# Altium footprint library Battery Holder.PcbLib: 25 footprints (part 1 of 2)
Each footprint in its own frame and in the unit in brackets; x right, y up, seen from the top. Pads: shape width x height; smd on the part's side, far side on the other; paste and mask are expansions set on the pad; w line width, h text height; cw(c..) or ccw(c..) is an arc to the next point about the centre after c.
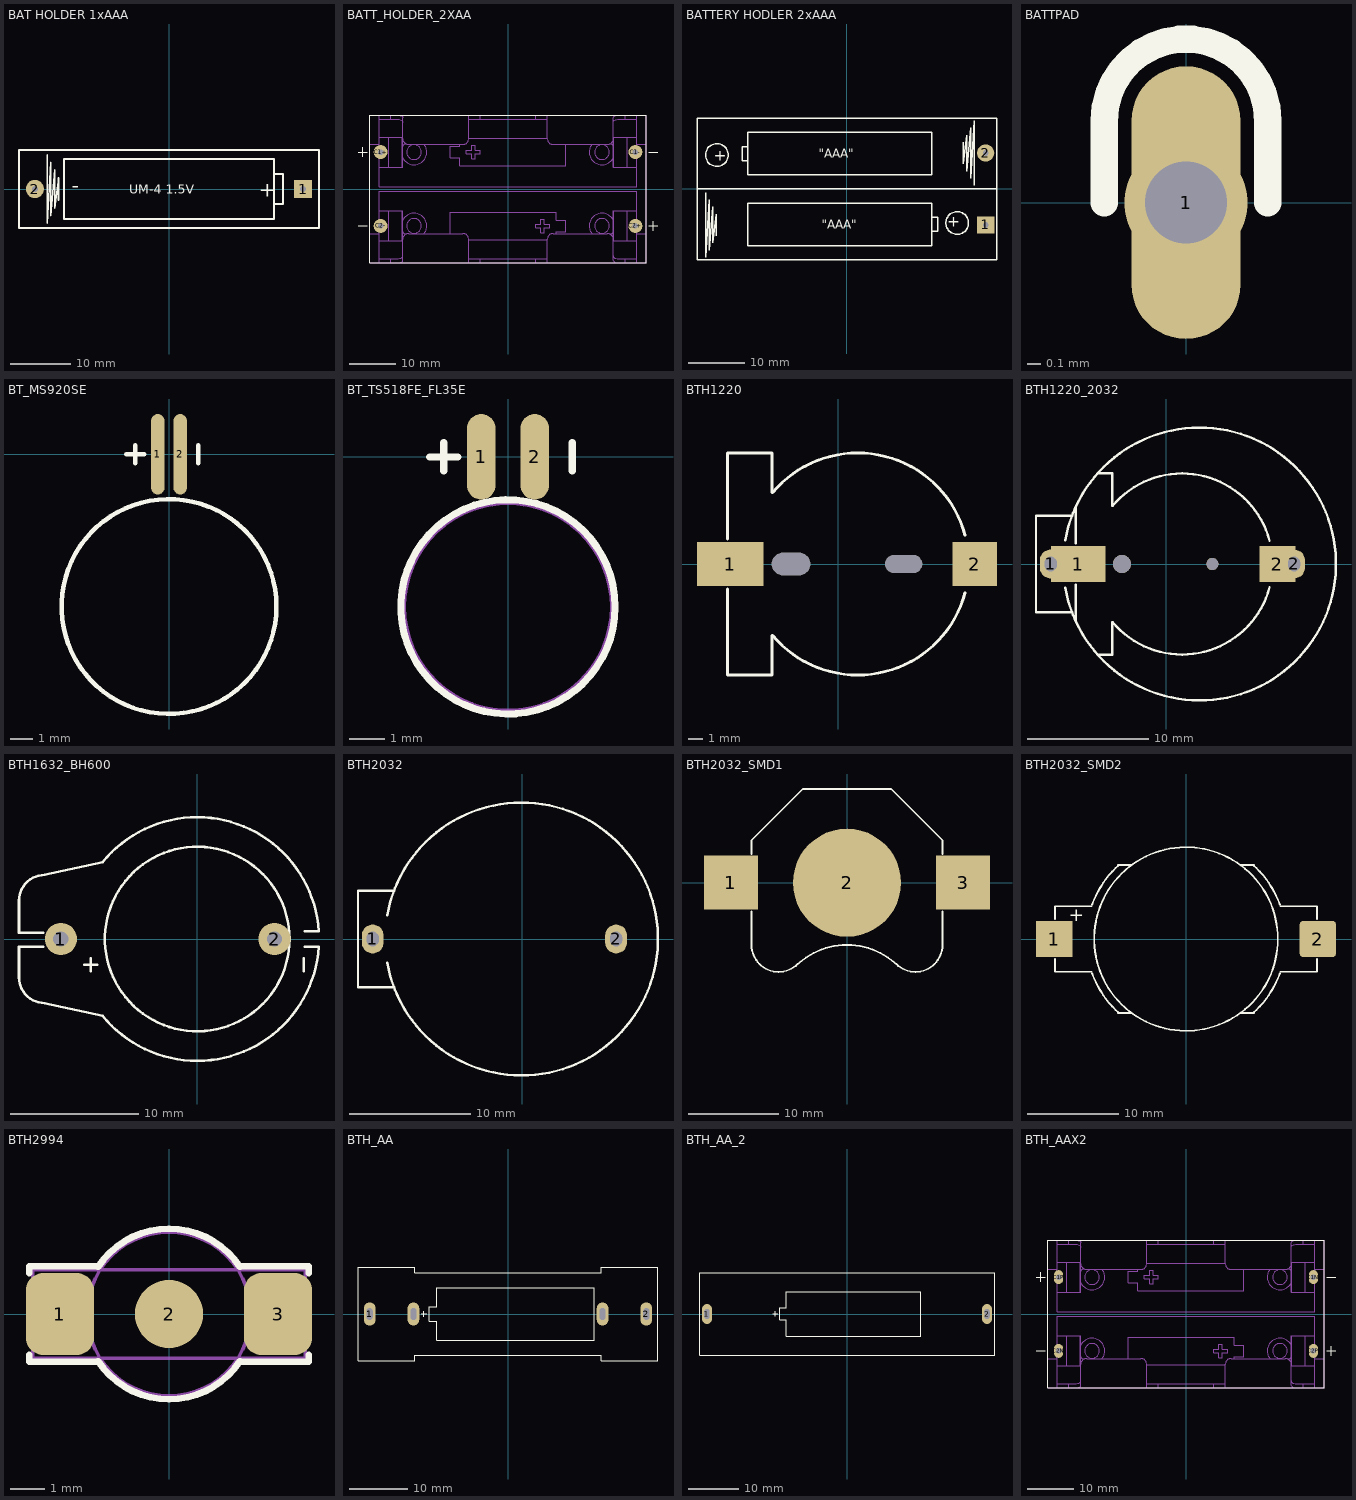
[diagram p0: the footprints below, top view; thin cyan lines are the x and y axes]

## BAT HOLDER 1xAAA [mil] "KEYSTONE 2466"
height 492.13
pads (2):
  rect 120x120 hole 40: 1(879.92,0)
  round 120 hole 40: 2(-879.92,0)
Top Overlay:
  lines w10: -800,225 -800,-225 -775,175 -775,-175 -750,125 -750,-125 -725,75 -725,-75 ; 688.98,-98.43 748.03,-98.43 748.03,98.43 688.98,98.43 ; -984.25,-255.91 984.25,-255.91 984.25,255.91 -984.25,255.91 -984.25,-255.91 ; -688.98,-196.85 688.98,-196.85 688.98,196.85 -688.98,196.85 -688.98,-196.85
  text "-" at -590,50 h100
  text "+" at 590,-50 h100
  text "UM-4 1.5V" at -260,-30 h60
3D body "User Library-KEYELCO-137.step": height 471, standoff -25, extent -1024.95,-375.05 1024.95,235

## BATT_HOLDER_2XAA [mil] "2-cell AA battery holder"
height 660
pads (4):
  round 120 hole 48: C1+(-1086.61,314.96) C1-(1086.61,314.96) C2+(1086.61,-314.96) C2-(-1086.61,-314.96)
Top Overlay:
  lines w5: -1279.53,-314.96 -1200.79,-314.96 ; -1279.53,314.96 -1200.79,314.96 ; -1240.16,275.59 -1240.16,354.33 ; 1200.79,-314.96 1279.53,-314.96 ; 1200.79,314.96 1279.53,314.96 ; 1240.16,-354.33 1240.16,-275.59
  lines w7.87: -1181.1,-629.92 1181.1,-629.92 1181.1,629.92 -1181.1,629.92 -1181.1,-629.92
Mechanical 13:
  drawing of 198 lines, arcs and shapes, not listed
3D body "2xAA Battery Holder.STEP": height 657.48, standoff -118.11, extent -1181.1,-629.91 1181.1,629.93

## BATTERY HODLER 2xAAA [mil] "KEYSTONE 2468"
height 511.81
pads (2):
  rect 120x120 hole 40: 1(964.57,-250)
  round 120 hole 40: 2(964.57,250)
Top Overlay:
  circle w10: c-905.51,236.22 r78.74
  circle w10: c766.14,-236.22 r78.74
  lines w10: -1043.31,0 1043.31,0 ; -983.07,-25 -983.07,-475 -958.07,-75 -958.07,-425 -933.07,-125 -933.07,-375 -908.07,-175 -908.07,-325 ; -688.98,196.85 -728.35,196.85 -728.35,295.28 -688.98,295.28 ; 590.55,-295.28 629.92,-295.28 629.92,-196.85 590.55,-196.85 ; 809.65,325 809.65,175 834.65,375 834.65,125 859.65,425 859.65,75 884.65,475 884.65,25 ; -1043.31,-492.13 -1043.31,492.13 1043.31,492.13 1043.31,-492.13 -1043.31,-492.13 ; -688.98,-393.7 590.55,-393.7 590.55,-98.43 -688.98,-98.43 -688.98,-393.7 ; -688.98,98.43 -688.98,393.7 590.55,393.7 590.55,98.43 -688.98,98.43
  text "+" at -925.2,196.85 h78.74
  text "+" at 787.4,-196.85 h78.74
  text "\"AAA\"" at -196.85,216.54 h60
  text "\"AAA\"" at -177.17,-275.59 h60
3D body "User Library-AAA holder.step": height 460, standoff 0, extent -1000,-500 1000,500

## BATTPAD [mm] "BATT PAD"
height 7.62
pads (1):
  oval 0.8x2 smd mask+0.1: 1(0,0)
via 0,0 diameter 0.9 hole 0.6
Top Overlay:
  lines w0.2: -0.6,0 -0.6,0.6 cw(c0,0.6) 0.6,0.6 0.6,0

## BT_MS920SE [mm] "MS920SE SEIKO BATTERY"
height 2.1
pads (2):
  oval 0.6x3.6 smd: 1(-0.5,0) 2(0.5,0)
Top Overlay:
  circle w0.2: c0,-6.8 r4.8
  lines w0.2: -1.9,0 -1.1,0 ; -1.5,-0.4 -1.5,0.4 ; 1.3,-0.4 1.3,0.4
3D body: height 2.1, standoff 0, extent -4.749,-11.55 4.749,-2.05

## BT_TS518FE_FL35E [mm] "MS518FE TS518FE FL35E SEIKO BATTERY"
height 2.1
pads (2):
  oval 0.8x2.4 smd: 1(-0.75,0) 2(0.75,0)
Top Overlay:
  circle w0.2: c0,-4.2 r3
  lines w0.2: -2.2,0 -1.4,0 ; -1.8,-0.4 -1.8,0.4 ; 1.8,-0.4 1.8,0.4
Mechanical 13:
  circle w0.1: c0,-4.2 r2.9
3D body: height 2.1, standoff 0, extent -2.894,-7.077 2.894,-1.3

## BTH1220 [mm] "COIN CELL BATTERY HOLDER 1220 12mm"
height 2
pads (4):
  rect 4.5x3 smd: 1(-7.3,0)
  rect 3x3 smd: 2(9.2,0)
  round 1.5 hole 1.5 slot 2.6 at 0 deg unplated: ""(-3.2,0)
  round 1 hole 1.2 slot 2.5 at 0 deg unplated: ""(4.4,0)
Top Overlay:
  lines w0.2: -7.5,-1.7 -7.5,-7.5 -4.5,-7.5 -4.5,-4.821 ; -7.5,1.7 -7.5,7.5 -4.5,7.5 -4.5,4.821 ; -4.445,-4.821 ccw(c1.3,0) 8.544,-1.941 ; -4.445,4.821 cw(c1.3,0) 8.544,1.941
3D body "SMD Battery Holder.step": height 4.26, standoff -0.49, extent -8.5,-7.4 10.3,7.349

## BTH1220_2032 [mm] "COIN CELL BATTERY HOLDER 1220 12mm CR2032"
height 2
pads (6):
  oval 1.8x2.4 hole 1 slot 1.2 at 90 deg: 1(-9.58,0) 2(10.58,0)
  rect 4.5x3 smd: 1(-7.3,0)
  rect 3x3 smd: 2(9.2,0)
  round 1.5 hole 1.5 unplated: ""(-3.683,0)
  round 1 hole 1 unplated: ""(3.81,0)
Top Overlay:
  lines w0.2: -8.378,-1.962 ccw(c2.75,0) -8.378,1.962 ; -7.8,-4 -10.8,-4 -10.8,4 -7.8,4 ; -7.5,-4.7 -7.5,-1.7 ; -7.5,1.7 -7.5,4.7 ; -5.6,-7.5 -4.5,-7.5 -4.5,-4.821 ; -5.6,7.5 -4.5,7.5 -4.5,4.821 ; -4.445,-4.821 ccw(c1.3,0) 8.544,-1.941 ; -4.445,4.821 cw(c1.3,0) 8.544,1.941
3D body "1220.STEP": height 4.35, standoff -0.9, extent -9,-7.375 10.201,7.374

## BTH1632_BH600 [mm] "Battery Holder BH600 CR1632 CR1620 CR1616"
height 7.6
pads (2):
  round 2.5 hole 1.2: 1(-10.63,0) 2(6.03,0)
Top Overlay:
  circle w0.2: c0,0 r7.2
  lines w0.2: -12,-0.6 -13.9,-0.6 -13.9,-3 ccw(c-11.9,-3) -11.9,-5 -7.4,-6 ; -12,0.5 -13.9,0.5 -13.9,3 cw(c-11.9,3) -11.9,5 -7.4,6 ; -8.8,-2 -7.8,-2 ; -8.3,-2.5 -8.3,-1.5 ; -7.379,-5.983 ccw(c0,0) 9.481,-0.599 ; -7.379,5.983 cw(c0,0) 9.481,0.599 ; 8.3,-2.5 8.3,-1.5 ; 8.4,-0.6 9.481,-0.6 ; 8.4,0.6 9.481,0.6
3D body "User Library-mpd bh600.step": height 8.34, standoff -4.36, extent -13.7,-9.525 9.647,9.525

## BTH2032 [mm] "CR2032 BATTERY HOLDER"
height 3.2
pads (2):
  oval 1.8x2.4 hole 1 slot 1.2 at 90 deg: 1(-12.38,0) 2(7.78,0)
Top Overlay:
  lines w0.2: -11.178,-1.962 ccw(c-0.05,0) -11.178,1.962 ; -10.6,-4 -13.6,-4 -13.6,4 -10.6,4
3D body "CR2032_HOR_HOLD.step": height 8.5, standoff -4, extent -13.45,-11 11.05,11

## BTH2032_SMD1 [mm] "COIN CELL BATTERY HOLDER 2032 20mm KEYSTONE3002"
height 2
pads (3):
  rect 6x6 smd: 1(-12.9,0) 3(12.9,0)
  round 12 smd: 2(0,0)
Top Overlay:
  lines w0.2: -10.6,-3.2 -10.6,-6.9 ccw(c-7.6,-6.9) -5.479,-9.021 ; -10.6,3.2 -10.6,4.7 -4.9,10.4 4.9,10.4 10.6,4.7 10.6,3.2 ; -5.657,-9.243 cw(c0,-14.9) 5.657,-9.243 ; 5.479,-9.021 ccw(c7.6,-6.9) 10.6,-6.9 10.6,-3.2
3D body "User Library-3002.step": height 4.06, standoff 0.1, extent -15.367,-9.779 15.367,10.274

## BTH2032_SMD2 [mm]
pads (2):
  rect 4x4 smd: 1(-14.5,0)
  rrect20% 4x4 smd: 2(14.5,0)
Top Overlay:
  circle w0.2: c0,0 r10.1
  lines w0.2: -14.4,-2.2 -14.4,-3.6 -10.4,-3.6 ; -14.4,2.2 -14.4,3.6 -10.4,3.6 ; -10.337,-3.762 ccw(c0,0) -7.36,-8.175 ; -10.337,3.762 cw(c0,0) -7.36,8.175 ; -7.5,-8.137 -5.992,-8.137 ; -7.5,8.137 -5.992,8.137 ; 5.992,-8.137 7.5,-8.137 ; 5.992,8.137 7.5,8.137 ; 7.36,-8.175 ccw(c0,0) 10.337,-3.762 ; 7.36,8.175 cw(c0,0) 10.337,3.762 ; 10.4,-3.6 14.4,-3.6 14.4,-2.2 ; 10.4,3.6 14.4,3.6 14.4,2.2
  text "+" at -11.2,3.2 h1.5
3D body "SMD_Cell_Holder_Full.STEP": height 5.4, standoff 0, extent -15.9,-10 15.9,10

## BTH2994 [mm] "BUTTON CELL BATTERY RETAINER 2994"
height 1.2
pads (3):
  rrect50% 2x2.4 smd: 1(-3.2,0) 3(3.2,0)
  round 2 smd: 2(0,0)
Top Overlay:
  lines w0.2: -4.1,-1.2 -4.1,-1.4 -2.1,-1.4 ; -4.1,1.2 -4.1,1.4 -2.1,1.4 ; -2.08,-1.387 ccw(c0,0) 2.08,-1.387 ; -2.08,1.387 cw(c0,0) 2.08,1.387 ; 2.1,-1.4 4.1,-1.4 4.1,-1.2 ; 2.1,1.4 4.1,1.4 4.1,1.2
Mechanical 13:
  circle w0.1: c0,0 r2.4
  lines w0.1: -4,-1.3 -4,1.3 4,1.3 4,-1.3 -4,-1.3
3D body: height 1.4, standoff 0, extent -2.6,-1.3 2.6,1.3
3D body: height 0.2, standoff 0, extent 2.6,-1.3 4,1.3
3D body: height 0.2, standoff 0, extent -4,-1.3 -2.6,1.3
3D body: height 1.2, standoff 0, extent -2.381,-2.395 2.4,2.395

## BTH_AA [mm] "Keystone 82"
height 1.8
pads (4):
  oval 2x4 hole 1 slot 2 at 90 deg: 1(-23.7,0) 2(23.7,0) ""(-16.2,0) ""(16.2,0)
Top Overlay:
  lines w0.2: -14.9,0 -13.9,0 ; -14.4,-0.5 -14.4,0.5 ; -25.7,-8 -16,-8 -16,-7.1 16,-7.1 16,-8 25.7,-8 25.7,8 16,8 16,7.1 -16,7.1 -16,8 -25.7,8 -25.7,-8 ; -13.5,-1.2 -13.5,1.2 -12.2,1.2 -12.2,4.5 14.8,4.5 14.8,-4.5 -12.2,-4.5 -12.2,-1.2 -13.5,-1.2
3D body "User Library-aa smt battery clip-1.SLDPRT": height 16.69, standoff -4.02, extent -25.6,-7.897 -16.075,7.897
3D body "User Library-aa smt battery clip-1.SLDPRT": height 16.69, standoff -4.02, extent 16.075,-7.897 25.6,7.897
3D body "User Library-BATTERY_AA.SLDPRT": height 16.01, standoff 1.99, extent -24.9,-7.007 24.9,7.008

## BTH_AA_2 [mm]
height 1.8
pads (2):
  oval 2x4 hole 1 slot 2 at 90 deg: 1(-28,0) 2(28,0)
Top Overlay:
  lines w0.2: -14.9,0 -13.9,0 ; -14.4,-0.5 -14.4,0.5 ; -29.5,-8.3 -29.5,8.3 29.6,8.3 29.6,-8.3 -29.5,-8.3 ; -13.5,-1.2 -12.2,-1.2 -12.2,-4.5 14.8,-4.5 14.8,4.5 -12.2,4.5 -12.2,1.2 -13.5,1.2 -13.5,-1.2
3D body "User Library-BAT_HLDR_BHAA-POL_1_3.sldprt": height 19.92, standoff 0.1, extent -29.428,-8.255 29.5,8.255
3D body "User Library-BAT_HLDR_BHAA-POL_1_2.sldprt": height 18.63, standoff -4.48, extent -28.488,-4.39 -24.8,4.5
3D body "User Library-BAT_HLDR_BHAA-POL_1_2.sldprt": height 18.63, standoff -4.48, extent 24.8,-4.5 28.488,4.39
3D body "User Library-BATTERY_AA.SLDPRT": height 16.01, standoff 1.99, extent -24.9,-7.007 24.9,7.008

## BTH_AAX2 [mm] "2-cell AA battery holder"
height 16.764
pads (4):
  oval 2x3 hole 1.2: C1N(27.6,8) C1P(-27.6,8) C2N(-27.6,-8) C2P(27.6,-8)
Top Overlay:
  lines w0.2: -32.5,-8 -30.5,-8 ; -32.5,8 -30.5,8 ; -31.5,7 -31.5,9 ; 30.5,-8 32.5,-8 ; 30.5,8 32.5,8 ; 31.5,-9 31.5,-7 ; -30,-16 -30,16 30,16 30,-16 -30,-16
Mechanical 13:
  drawing of 198 lines, arcs and shapes, not listed
3D body "2xAA Battery Holder.STEP": height 16.7, standoff -3, extent -30,-16 30,16